# Altium schematic symbol library dvrk-s-pwm_2.SCHLIB: 58 symbols (part 2 of 2)
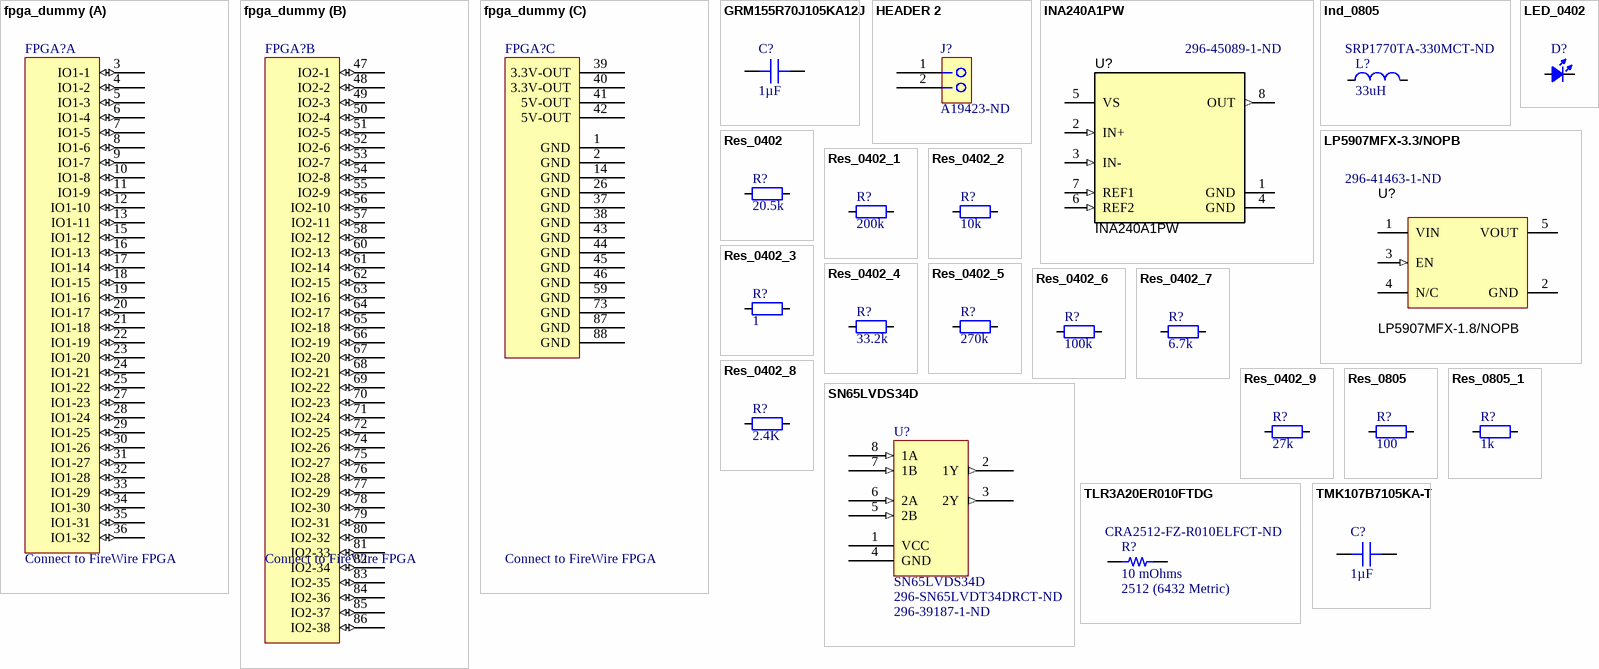
[diagram p2: symbols fpga_dummy to TMK107B7105KA-T]

## Ind_0805
designator L?  value 33uH  Supplier Part Number 1: SRP1770TA-330MCT-ND
Inductor Power Shielded Wirewound 33uH 20% 100KHz 20Q-Factor Carbonyl Powder 10.7A 0.044Ohm DCR Automotive T/R; Manufacturer: TDK; Manufacturer Part Number: MPZ2012S300AT000; Core Material: Ferrite; Impedance: 30R; Current Rating: 6A; DC Resistance (DCR): 10mR; Inductance: 100uH; Saturation Current: 6.5A; Self Resonant Frequency: 2MHz; RMS Current (Irms): 5.3A; Stock 1: 117704; Pricing 1: 1=0.11, 10=0.091, 25=0.0704, 50=0.0584, 100=0.0503, 250=0.04028, 500=0.03624, 1000=0.0302 (USD); Mount: Surface Mount; Case/Package: 0805; Number of Pins: 3; Case Code (Metric): 2012; Case Code (Imperial): 0805; Packaging: Tape and Reel; Package Quantity: 1; Max DC Current: 6A; Length: 0.079inch; Height: 0.041inch; Width: 0.049inch; Depth: 1.25mm; REACH SVHC: No SVHC; Lead Free: Lead Free; ComponentLink1URL: https://datasheet.ciiva.com/46381/1750041-46381644.pdf; ComponentLink1Description: https://datasheet.ciiva.com/46381/1750041-46381644.pdf; ComponentLink2URL: https://datasheet.ciiva.com/48682/beads-commercial-power-mpz-en-48682508.pdf; ComponentLink2Description: https://datasheet.ciiva.com/48682/beads-commercial-power-mpz-en-48682508.pdf; ComponentLink3URL: https://datasheet.ciiva.com/8077/55169-8077085.pdf; ComponentLink3Description: https://datasheet.ciiva.com/8077/55169-8077085.pdf; ComponentLink4URL: https://datasheet.ciiva.com/8077/55169-8077086.pdf; ComponentLink4Description: https://datasheet.ciiva.com/8077/55169-8077086.pdf; ComponentLink5URL: https://datasheet.ciiva.com/46634/beads-commercial-power-mpz-en-46634590.pdf; ComponentLink5Description: https://datasheet.ciiva.com/46634/beads-commercial-power-mpz-en-46634590.pdf; ComponentLink6URL: https://datasheet.ciiva.com/46634/beads-commercial-power-mpz-en-46634367.pdf; ComponentLink6Description: https://datasheet.ciiva.com/46634/beads-commercial-power-mpz-en-46634367.pdf; RoHS: Yes; Category: Fixed Inductors; Stock 2: 10; Pricing 2: 1=4.75000, 10=4.35200, 25=3.95640, 50=3.32340, 100=2.84860 (USD); Min Operating Temperature: -40°C; Max Operating Temperature: 150°C; Resistor Type: Wirewound; Shielding: Shielded; Test Frequency: 100kHz; Tolerance: 20%; Inductance Tolerance: 20%; Height - Seated (Max): 0.276inch; Ratings: AEC-Q200; RoHS Compliant: Yes; ComponentLink7URL: http://www.farnell.com/datasheets/2360566.pdf?src-supplier=Farnell; ComponentLink7Description: http://www.farnell.com/datasheets/2360566.pdf?src-supplier=Farnell; ComponentLink8URL: http://www.farnell.com/datasheets/1955470.pdf?src-supplier=Element14; ComponentLink8Description: http://www.farnell.com/datasheets/1955470.pdf?src-supplier=Element14; ComponentLink9URL: http://www.bourns.com/docs/Product-Datasheets/SRP1770TA.pdf?src-supplier=Digi-Key; ComponentLink9Description: http://www.bourns.com/docs/Product-Datasheets/SRP1770TA.pdf?src-supplier=Digi-Key; ComponentLink10URL: https://www.bourns.com/docs/Product-Datasheets/SRP1770TA.pdf?src-supplier=Digi-Key; ComponentLink10Description: https://www.bourns.com/docs/Product-Datasheets/SRP1770TA.pdf?src-supplier=Digi-Key; ComponentLink11URL: http://www.farnell.com/datasheets/1955470.pdf?src-supplier=Farnell; ComponentLink11Description: http://www.farnell.com/datasheets/1955470.pdf?src-supplier=Farnell; Supplier 1: Digi-Key
footprint SRP1770TA (Precision Wire Wound Inductor, 2-Leads, Body 16.90x16.90mm, IPC Medium Density)
pins: 1, 2

## LED_0402
designator D?  (value not drawn)
LED ORANGE CLEAR CHIP SMD; Manufacturer: Kingbright; Manufacturer Part Number: APHHS1005SECK; Viewing Angle: 120°; Lens Style: Clear,Flat; Luminous Intensity: 240mcd; Forward Voltage: 2.1V; Forward Current: 20mA; Dominant Wavelength: 601nm; Number of LEDs: 1; Supplier 1: Digi-Key; Supplier Part Number 1: 754-1103-1-ND; RoHS: Yes; Category: LEDs; Stock 1: 25673; Pricing 1: 1=0.49000, 10=0.32500, 100=0.21700, 500=0.15010, 1000=0.12508 (USD); Mount: Surface Mount; Case/Package: 0402; Number of Pins: 2; Color: Orange; Case Code (Metric): 1005; Case Code (Imperial): 0402; Lens Color: Clear; Min Operating Temperature: -40°C; Max Operating Temperature: 85°C; Package Quantity: 2000; Packaging: Tape and Reel; Illumination Color: Orange; Test Current: 20mA; Wavelength: 601nm; Series: APHHS; Length: 1mm; Width: 0.5mm; Height: 0.6mm; Lead Free: Lead Free; RoHS Compliant: Yes; ComponentLink1URL: https://datasheet.ciiva.com/2114/aphhs1005seck-2114149.pdf?src-supplier=Digi-Key; ComponentLink1Description: https://datasheet.ciiva.com/2114/aphhs1005seck-2114149.pdf?src-supplier=Digi-Key; ComponentLink2URL: https://datasheet.ciiva.com/4688/aphhs1005seck-36485-4688716.pdf?src-supplier=Mouser; ComponentLink2Description: https://datasheet.ciiva.com/4688/aphhs1005seck-36485-4688716.pdf?src-supplier=Mouser; ComponentLink3URL: https://datasheet.ciiva.com/2114/aphhs1005seck-2114150.pdf?src-supplier=Digi-Key; ComponentLink3Description: https://datasheet.ciiva.com/2114/aphhs1005seck-2114150.pdf?src-supplier=Digi-Key; ComponentLink4URL: https://datasheet.ciiva.com/16412/aphhs1005seck-16412186.pdf?src-supplier=Future+Electronics; ComponentLink4Description: https://datasheet.ciiva.com/16412/aphhs1005seck-16412186.pdf?src-supplier=Future+Electronics; ComponentLink5URL: https://datasheet.ciiva.com/2114/aphhs1005seck-2114151.pdf?src-supplier=Digi-Key; ComponentLink5Description: https://datasheet.ciiva.com/2114/aphhs1005seck-2114151.pdf?src-supplier=Digi-Key
footprint ROHM-SML-P11MT_V (SMD, 2-Leads, Body 0.6x1mm)
footprint LED_0402_BLUE
footprint LED_0402_ORANGE
footprint LED_0402_YELLOW
footprint LED_0402_GREEN
pins: 1 A, 2 K

## LP5907MFX-3.3/NOPB
designator U?, comment LP5907MFX-1.8/NOPB  Supplier Part Number 1: 296-41463-1-ND
Ultra Low Noise, 250mA Linear Regulator; Manufacturer: Texas Instruments; SymbolCreator: a0799628; SizeArea_mm2: 8.12; SizeAreaWB_mm2: 14.82; SizeX_mm: 2.8; SizeY_mm: 2.9; SizeZ_mm: 1.45; CompType: IC; U/M: EA; Min Input Voltage: 2.2V; Number of Outputs: 1; Output Voltage: 1.8V; Dropout Voltage: 250mV; Max Input Voltage: 5.5V; Polarity: Positive; Quiescent Current: 25uA; Output Voltage Accuracy: 2%; Power Supply Rejection Ratio (PSRR): 82dB; Output Type: Fixed; SymbolVersion: 2014-03-21; PartNumber: LP5907MFX-1.8/NOPB; PackageReference: DBV0005A; PackageDescription: SOT-5; MountType: SMT; ComponentLink1Description: Datasheet Link; ComponentLink1URL: http://www.ti.com/lit/ds/symlink/lp5907.pdf; RoHS: Y; Publisher: Texas Instruments; LatestRevisionDate: 2016-09-20; Alternate Manufacturer: Texas Instruments; Supplier 1: Digi-Key; Manufacturer Part Number: LP5907MFX-1.8/NOPB; Category: Voltage Regulators - Linear; Stock 1: 17882; Pricing 1: 1=0.57000, 10=0.48900, 25=0.45640, 100=0.33900, 250=0.28684, 500=0.27380, 1000=0.20209 (USD); Mount: Surface Mount; Case/Package: SOT-23; Number of Pins: 5; Contact Plating: Tin; Min Operating Temperature: -40°C; Max Operating Temperature: 125°C; Packaging: Tape and Reel; Package Quantity: 3000; Output Current: 250mA; Number of Regulators: 1; Nominal Output Voltage: 1.8V; Accuracy: 2%; Max Output Current: 250mA; REACH SVHC: No SVHC; Lead Free: Lead Free; RoHS Compliant: Yes; ComponentLink2URL: https://datasheet.ciiva.com/15083/lp5907-15083594.pdf?src-supplier=Digi-Key; ComponentLink2Description: https://datasheet.ciiva.com/15083/lp5907-15083594.pdf?src-supplier=Digi-Key
footprint DBV0005A_N
footprint DBV0005A_M
footprint DBV0005A_L
pins: 1 VIN (power), 2 GND (power), 3 EN (in), 4 N/C, 5 VOUT (power)
1 alternate drawing of the same symbol

## Res_0402
designator R?  value 20.5k  (hidden comment: Res_0402)
Resistor
footprint RESC1005X40X25NL05T05 (Chip Resistor, 2-Leads, Body 1.05x0.55mm, IPC Medium Density)
footprint FP-CRCW0402-e3-IPC_B
pins: 1, 2

## Res_0402_1
designator R?, comment value 200k  (hidden comment: Res_0402)
Resistor
footprint RESC1005X40X25NL05T05 (Chip Resistor, 2-Leads, Body 1.05x0.55mm, IPC Medium Density)
footprint FP-CRCW0402-e3-IPC_B
pins: 1, 2

## Res_0402_2
designator R?, comment value 10k  (hidden comment: Res_0402)
Resistor
footprint RESC1005X40X25NL05T05 (Chip Resistor, 2-Leads, Body 1.05x0.55mm, IPC Medium Density)
footprint FP-CRCW0402-e3-IPC_B
pins: 1, 2

## Res_0402_3
designator R?, comment value 1  (hidden comment: Res_0402)
Resistor
footprint RESC1005X40X25NL05T05 (Chip Resistor, 2-Leads, Body 1.05x0.55mm, IPC Medium Density)
footprint FP-CRCW0402-e3-IPC_B
pins: 1, 2

## Res_0402_4
designator R?, comment value 33.2k  (hidden comment: Res_0402)
Resistor
footprint RESC1005X40X25NL05T05 (Chip Resistor, 2-Leads, Body 1.05x0.55mm, IPC Medium Density)
footprint FP-CRCW0402-e3-IPC_B
pins: 1, 2

## Res_0402_5
designator R?, comment value 270k  (hidden comment: Res_0402)
Resistor
footprint RESC1005X40X25NL05T05 (Chip Resistor, 2-Leads, Body 1.05x0.55mm, IPC Medium Density)
footprint FP-CRCW0402-e3-IPC_B
pins: 1, 2

## Res_0402_6
designator R?, comment value 100k  (hidden comment: Res_0402)
Resistor
footprint RESC1005X40X25NL05T05 (Chip Resistor, 2-Leads, Body 1.05x0.55mm, IPC Medium Density)
footprint FP-CRCW0402-e3-IPC_B
pins: 1, 2

## Res_0402_7
designator R?, comment value 6.7k  (hidden comment: Res_0402)
Resistor
footprint RESC1005X40X25NL05T05 (Chip Resistor, 2-Leads, Body 1.05x0.55mm, IPC Medium Density)
footprint FP-CRCW0402-e3-IPC_B
pins: 1, 2

## Res_0402_8
designator R?, comment value 2.4K  (hidden comment: Res_0402)
Resistor
footprint RESC1005X40X25NL05T05 (Chip Resistor, 2-Leads, Body 1.05x0.55mm, IPC Medium Density)
footprint FP-CRCW0402-e3-IPC_B
pins: 1, 2

## Res_0402_9
designator R?, comment value 27k  (hidden comment: Res_0402)
Resistor
footprint RESC1005X40X25NL05T05 (Chip Resistor, 2-Leads, Body 1.05x0.55mm, IPC Medium Density)
footprint FP-CRCW0402-e3-IPC_B
pins: 1, 2

## Res_0805
designator R?  value 100  (hidden comment: Res_0805)
Resistor
footprint RESC2013X60X40NL20T25 (Chip Resistor, 2-Leads, Body 2.00x1.25mm, IPC Medium Density)
footprint FP-CRCW0805-HPe3-IPC_B
pins: 1, 2

## Res_0805_1
designator R?, comment value 1k  (hidden comment: Res_0805)
Resistor
footprint RESC2013X60X40NL20T25 (Chip Resistor, 2-Leads, Body 2.00x1.25mm, IPC Medium Density)
footprint FP-CRCW0805-HPe3-IPC_B
pins: 1, 2

## SN65LVDS34D
designator U?  Supplier Part Number 1: 296-SN65LVDT34DRCT-ND  Supplier Part Number 2: 296-39187-1-ND
LVDS Receiver 8-Pin SOIC T/R; Manufacturer: Texas Instruments; Manufacturer Part Number: SN65LVDS34DR; Number of Receivers: 4; Operating Supply Voltage: 3.3V; Propagation Delay: 9ns; Max Power Dissipation: 950mW; Nominal Supply Current: 12mA; Max Supply Voltage: 3.6V; Min Supply Voltage: 3V; Data Rate: 400Mbps; Receiver Hysteresis: 50mV; Max Input Current: 75uA; Stock 1: 3654; Pricing 1: 1=2.27, 10=2.042, 100=1.641, 500=1.34828, 1000=1.11714 (USD); Mount: Surface Mount; Case/Package: SOIC; Number of Pins: 8; Weight: 0.002561oz; Contact Plating: Gold; Min Operating Temperature: -40°C; Max Operating Temperature: 85°C; Packaging: Tape and Reel; Package Quantity: 2500; Number of Elements: 4; Number of Drivers: 4; Turn-On Delay Time: 9ns; Power Dissipation: 950mW; Logic Function: Receiver; Lead Free: Lead Free; ComponentLink1URL: https://datasheet.ciiva.com/1770/sn65lvdt33-1770664.pdf; ComponentLink1Description: https://datasheet.ciiva.com/1770/sn65lvdt33-1770664.pdf; ComponentLink2URL: https://datasheet.ciiva.com/3152/sn65lvds33-3152872.pdf; ComponentLink2Description: https://datasheet.ciiva.com/3152/sn65lvds33-3152872.pdf; RoHS: Yes; Category: Interface ICs; Stock 2: 2291; Pricing 2: 1=2.75000, 10=2.47200, 25=2.33200, 100=1.86560, 250=1.63240, 500=1.58576, 1000=1.25928 (USD); Series: 65LVDT; Supply Current: 12mA; Radiation Hardening: No; RoHS Compliant: Yes; ComponentLink3URL: https://datasheet.ciiva.com/15133/getdatasheetpartid-524946-15133570.pdf?src-supplier=Verical; ComponentLink3Description: https://datasheet.ciiva.com/15133/getdatasheetpartid-524946-15133570.pdf?src-supplier=Verical; ComponentLink4URL: https://datasheet.ciiva.com/26828/sn65lvdt34dr-26828764.pdf?src-supplier=IIIC; ComponentLink4Description: https://datasheet.ciiva.com/26828/sn65lvdt34dr-26828764.pdf?src-supplier=IIIC; ComponentLink5URL: https://datasheet.ciiva.com/1770/sn65lvdt33-1770866.pdf?src-supplier=Digi-Key; ComponentLink5Description: https://datasheet.ciiva.com/1770/sn65lvdt33-1770866.pdf?src-supplier=Digi-Key; ComponentLink6URL: https://datasheet.ciiva.com/3153/sn65lvds33-3153018.pdf?src-supplier=Avnet; ComponentLink6Description: https://datasheet.ciiva.com/3153/sn65lvds33-3153018.pdf?src-supplier=Avnet; ComponentLink7URL: https://datasheet.ciiva.com/26002/slls490b-26002508.pdf?src-supplier=Avnet+Europe; ComponentLink7Description: https://datasheet.ciiva.com/26002/slls490b-26002508.pdf?src-supplier=Avnet+Europe; Supplier 1: Digi-Key; Supplier 2: Digi-Key
footprint D8_L (SOIC, 8-Leads, Body 4.9x3.9mm, Pitch 1.27mm, IPC High Density)
footprint D8_N
footprint SOIC127P600X175-8N
pins: 1 VCC (power), 2 1Y (out), 3 2Y (out), 4 GND (power), 5 2B (in), 6 2A (in), 7 1B (in), 8 1A (in)

## TLR3A20ER010FTDG
designator R?, comment 10 mOhms  Package / Case: 2512 (6432 Metric)  Supplier Part Number 1: CRA2512-FZ-R010ELFCT-ND
RES 0.01 OHM 1% 2W 2512; Part Number: TLR3A20ER010FTDG; Manufacturer: TE Connectivity Passive Product; Temperature Coefficient: ±100ppm/°C; ComponentLink1Description: Datasheet; ComponentLink1URL: https://www.te.com/commerce/DocumentDelivery/DDEController?Action=srchrtrv&DocNm=1773449-3&DocType=DS&DocLang=English; ComponentLink2Description: DigiKey Link; ComponentLink2URL: http://digikey.com/product-detail/en/te-connectivity-passive-product/TLR3A20ER010FTDG/A129568CT-ND/8566772; Composition: Metal Foil; Device Package: 2512 (6432 Metric); Features: Current Sense; Height - Seated (Max): 0.024" (0.60mm); LastUpdated: 9/2/2020 1:18:04 AM; Lifecycle Status: Active; Minimum Order: 1; Number of Terminations: 2; Operating Temperature: -55°C ~ 170°C; Packaging: TapeAndReel; PartId: 1895; Part Status: Active; Power (Watts): 2W; Price: 0.30; Resistance: 10 mOhms; Series: TLR, CGS; Size / Dimension: 0.252" L x 0.126" W (6.40mm x 3.20mm); Supplier Device Package: 2512; Tolerance: ±1%; Value: 10 mOhms; Supplier 1: Digi-Key
footprint STACKPOLE CSR2512
pins: 1, 2

## TMK107B7105KA-T
designator C?, comment 1µF
CAP CER 1UF 25V X7R 0603; Part Number: TMK107B7105KA-T; Manufacturer: Taiyo Yuden; Tolerance: ±10%; Value: 1µF; Applications: General Purpose; Capacitance: 1µF; ComponentLink1Description: Datasheet; ComponentLink1URL: https://www.yuden.co.jp/productdata/catalog/mlcc01_e.pdf; ComponentLink2Description: DigiKey Link; ComponentLink2URL: http://digikey.com/product-detail/en/taiyo-yuden/TMK107B7105KA-T/587-2984-1-ND/2714177; Device Package: 0603 (1608 Metric); LastUpdated: 9/2/2020 1:03:30 AM; Lifecycle Status: Active; Minimum Order: 1; Mounting Type: Surface Mount, MLCC; Operating Temperature: -55°C ~ 125°C; Package / Case: 0603 (1608 Metric); Packaging: TapeAndReel; PartId: 5586; Part Status: Active; Price: 0.01; Series: M; Size / Dimension: 0.063" L x 0.031" W (1.60mm x 0.80mm); Supplier 1: DigiKey; Supplier Part Number 1: 587-2984-1-ND; Temperature Coefficient: X7R; Thickness (Max): 0.035" (0.90mm); Voltage - Rated: 25V
footprint CAP 0603_1608
footprint FP-GRM188-0_1-e0_2_0_55-IPC_B
pins: 1, 2